# Altium footprint library 智能车专用库.PcbLib: 47 footprints (part 3 of 3)
Each footprint in its own frame and in the unit in brackets; x right, y up, seen from the top. Pads: shape width x height; smd on the part's side, far side on the other; paste and mask are expansions set on the pad; w line width, h text height; cw(c..) or ccw(c..) is an arc to the next point about the centre after c.
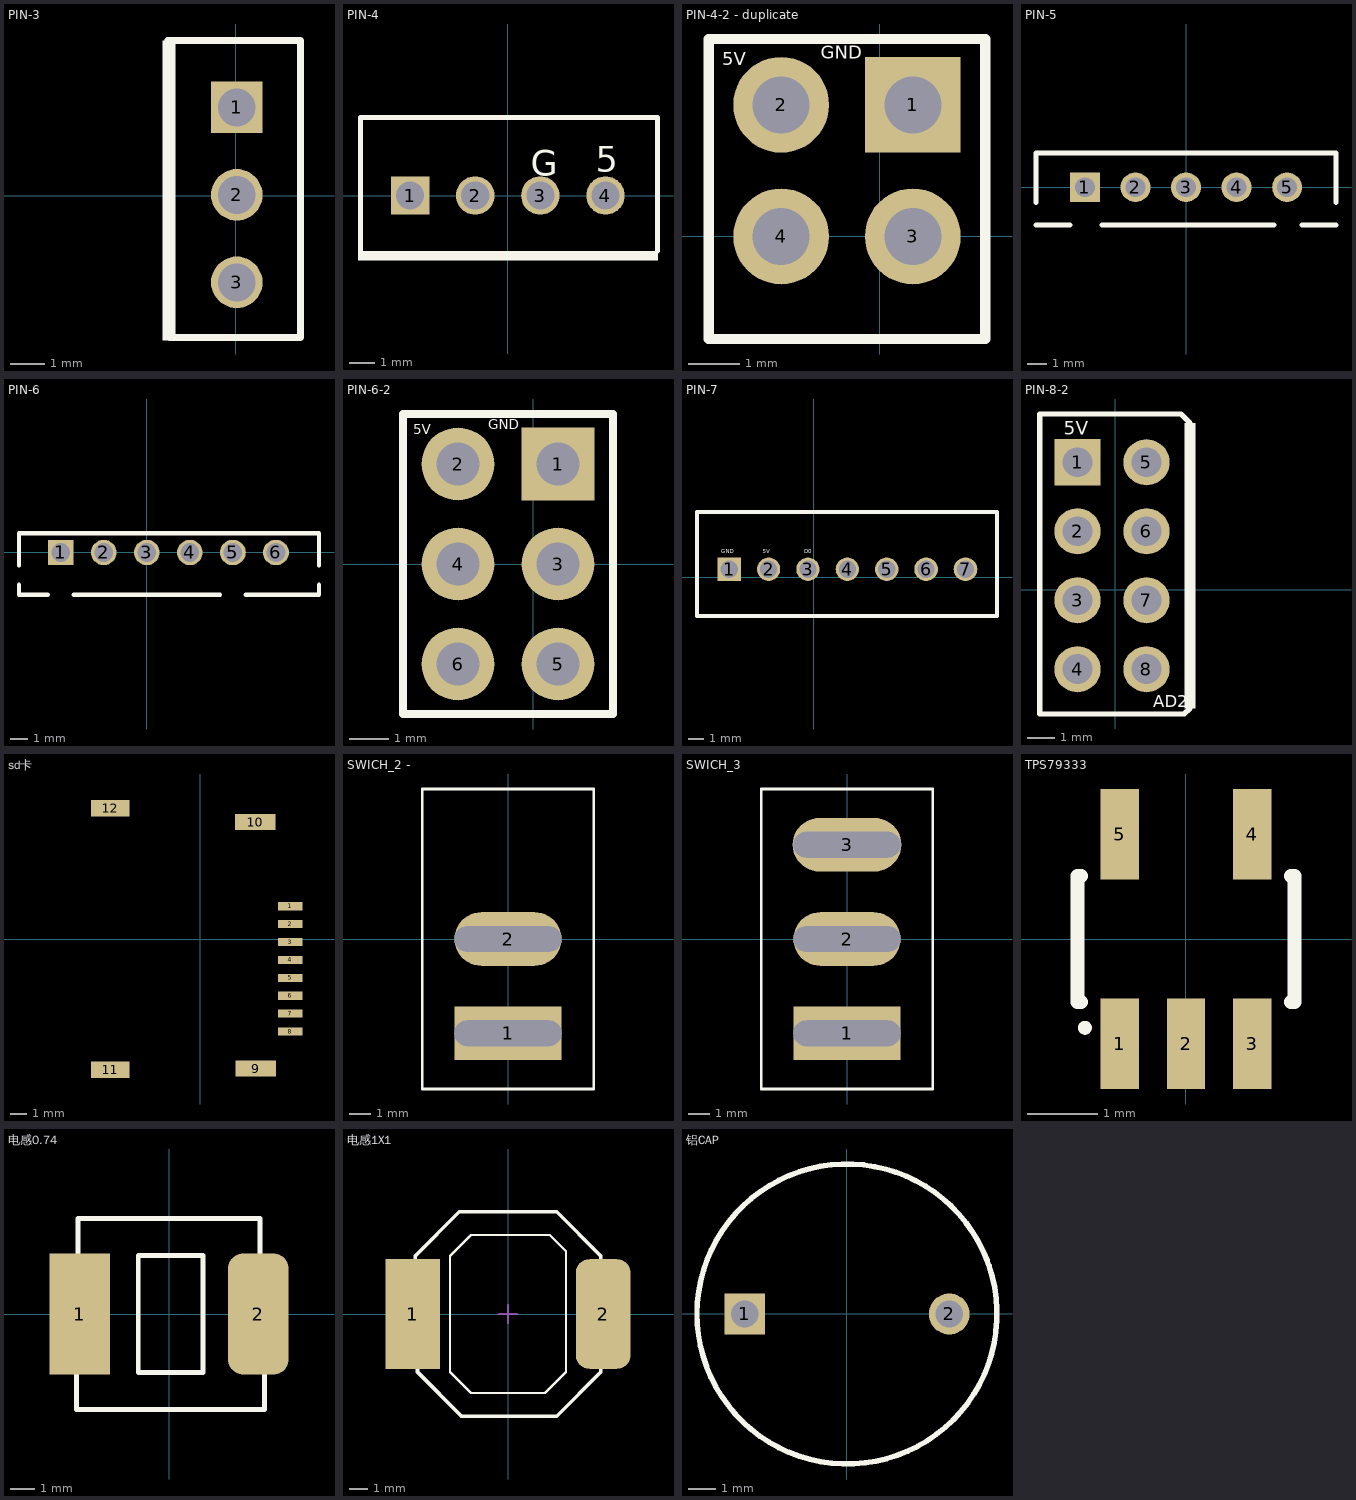
[diagram p2: the footprints below, top view; thin cyan lines are the x and y axes]

## PIN-3 [mm] "SIP; 4 Leads; Body 11.8 x 5.7mm (typ); Pitch 2.54 mm"
height 10.6
pads (3):
  rect 1.5x1.5 hole 1.1: 1(0.025,2.565)
  round 1.5 hole 1.1: 2(0.025,0.025) 3(0.025,-2.515)
Top Overlay:
  region: -2.134,4.505 -2.134,-4.207 -1.754,-4.207 -1.754,4.505
  lines w0.2: -1.981,4.505 1.88,4.505 1.88,-4.115 -1.93,-4.115

## PIN-4 [mm] "SIP; 4 Leads; Body 11.8 x 5.7mm (typ); Pitch 2.54 mm"
height 10.6
pads (4):
  rect 1.5x1.5 hole 1.1: 1(-3.81,0)
  round 1.5 hole 1.1: 2(-1.27,0) 3(1.27,0) 4(3.81,0)
Top Overlay:
  rectangle: -5.842,-2.54 5.858,-2.16
  lines w0.2: -5.75,-2.159 -5.75,3.048 5.75,3.048 ; 5.842,-2.159 5.842,3.048
  text "G" at 0.889,0.762 h0.99
  text "5" at 3.429,0.925 h0.99

## PIN-4-2 - duplicate [mm] "Double-Pole, Double-Throw Switch; 6 Leads"
pads (4):
  rect 1.85x1.85 hole 1.1: 1(0.635,2.54)
  round 1.85 hole 1.1: 2(-1.905,2.54) 3(0.635,0) 4(-1.905,0)
Top Overlay:
  lines w0.2: -3.302,-1.981 -3.302,3.81 2.032,3.81 2.032,-1.981 -3.302,-1.981
  text "GND" at -1.143,3.429 h0.25
  text "5V" at -3.048,3.302 h0.25

## PIN-5 [mm] "2.54mmX5"
pads (5):
  rect 1.5x1.5 hole 1: 1(-5.08,0)
  round 1.5 hole 1: 2(-2.54,0) 3(0,0) 4(2.54,0) 5(5.08,0)
Top Overlay:
  lines w0.254: -7.54,-1.905 -5.842,-1.905 ; -7.54,-0.762 -7.54,1.727 7.54,1.727 7.54,-0.762 ; -4.216,-1.905 4.42,-1.905 ; 5.842,-1.905 7.54,-1.905

## PIN-6 [mm] "2.54mmX5"
pads (6):
  rect 1.5x1.5 hole 1.1: 1(-5.08,0)
  round 1.5 hole 1.1: 2(-2.54,0) 3(0,0) 4(2.54,0)
  oval 1.524x1.5 hole 1.1: 5(5.08,0) 6(7.62,0)
Top Overlay:
  lines w0.254: -7.54,-1.905 -7.54,-2.5 -5.842,-2.5 ; -7.54,-0.762 -7.54,1.143 10.16,1.143 10.16,-0.762 ; -4.318,-2.5 4.318,-2.5 ; 5.842,-2.5 10.16,-2.5 10.16,-1.905

## PIN-6-2 [mm] "Double-Pole, Double-Throw Switch; 6 Leads"
pads (6):
  rect 1.85x1.85 hole 1.1: 1(0.635,2.54)
  round 1.85 hole 1.1: 2(-1.905,2.54) 3(0.635,0) 4(-1.905,0) 5(0.635,-2.54) 6(-1.905,-2.54)
Top Overlay:
  lines w0.2: -3.302,-3.81 2.032,-3.81 2.032,3.81 -3.302,3.81 -3.302,-3.81
  text "5V" at -3.048,3.302 h0.25
  text "GND" at -1.143,3.429 h0.25

## PIN-7 [mm] "2.54mmX5"
pads (7):
  rect 1.5x1.5 hole 1.1: 1(-5.461,0.508)
  round 1.5 hole 1.1: 2(-2.921,0.508) 3(-0.381,0.508) 4(2.159,0.508)
  oval 1.524x1.5 hole 1.1: 5(4.699,0.508) 6(7.239,0.508) 7(9.779,0.508)
Top Overlay:
  lines w0.254: 5.842,-2.5 11.811,-2.5 ; 6.223,-2.5 -4.318,-2.5 -7.54,-2.5 -7.54,-0.762 -7.54,4.191 11.811,4.191 11.811,-2.413
  text "D0" at -0.635,1.524 h0.25
  text "5V" at -3.302,1.524 h0.25
  text "GND" at -5.969,1.524 h0.25

## PIN-8-2 [mm] "TO, Thru-Hole, Vertical, Heatsink Mounted; 4 In-Line Leads; Pitch 2.54 mm"
height 20.6
pads (8):
  rect 1.7x1.7 hole 1.1: 1(-1.397,4.699)
  round 1.7 hole 1.1: 2(-1.397,2.159) 3(-1.397,-0.381) 4(-1.397,-2.921) 5(1.143,4.699) 6(1.143,2.159) 7(1.143,-0.381) 8(1.143,-2.921)
Top Overlay:
  region: 2.54,6.139 2.54,-4.361 2.94,-4.361 2.94,6.139
  lines w0.2: 2.743,-4.361 2.532,-4.572 -2.794,-4.572 -2.794,-1.355 -2.794,3.895 -2.794,6.477 2.405,6.477 2.743,6.139
  text "5V" at -1.905,5.715 h0.5
  text "AD2" at 1.397,-4.318 h0.45

## sd卡 [mm]
pads (12):
  rect 1.5x0.5 smd: 1(5.525,2.012) 2(5.525,0.912) 3(5.525,-0.188) 4(5.525,-1.288) 5(5.525,-2.388) 6(5.525,-3.488) 7(5.525,-4.588) 8(5.525,-5.687)
  rect 2.5x1 smd: 9(3.4,-7.962) 10(3.375,7.188)
  rect 2.36x1 smd: 11(-5.525,-8.037) 12(-5.525,8.038)
Bottom Overlay:
  lines w0.127: -10.125,-7.385 4.713,-7.385 4.713,7.413 -10.125,7.413 -10.125,-7.385

## SWICH_2 - [mm]
pads (2):
  rect 5x2.5 hole 1.2 slot 5 at 0 deg: 1(0,-4.4)
  oval 5x2.5 hole 1.2 slot 5 at 0 deg: 2(0,0)
Top Overlay:
  lines w0.127: -4,-7 -4,7 4,7 4,-7 -4,-7

## SWICH_3 [mm]
pads (3):
  rect 5x2.5 hole 1.2 slot 5 at 0 deg: 1(0,-4.4)
  oval 5x2.5 hole 1.2 slot 5 at 0 deg: 2(0,0)
  oval 5.08x2.5 hole 1.2 slot 5 at 0 deg: 3(0,4.4)
Top Overlay:
  lines w0.127: -4,-7 -4,7 4,7 4,-7 -4,-7

## TPS79333 [mm]
pads (5):
  rect 0.55x1.292 smd: 1(-0.95,-1.5) 2(0,-1.5) 3(0.95,-1.5) 4(0.95,1.5) 5(-0.95,1.5)
Top Overlay:
  circle w0.1: c-1.447,-1.27 r0.05
  lines w0.2: -1.5,-0.9 -1.55,-0.9 -1.55,0.9 -1.5,0.9 ; 1.5,-0.9 1.55,-0.9 1.55,0.9 1.5,0.9

## 电感0.74 [mm]
pads (2):
  rect 2.5x5 smd: 1(-3.683,0)
  rrect50% 2.5x5 smd: 2(3.683,0)
Top Overlay:
  lines w0.2: -3.81,-2.413 -3.81,-3.937 3.937,-3.937 3.937,-2.413 ; -3.746,2.413 -3.746,3.937 3.746,3.937 3.746,2.413 ; -1.27,-2.413 1.397,-2.413 1.397,2.413 -1.27,2.413 -1.27,-2.413

## 电感1X1 [mm]
pads (2):
  rect 3x6 smd: 1(-5.207,0)
  rrect50% 3x6 smd: 2(5.207,0)
Top Overlay:
  lines w0.127: -1.365,-4.318 2.032,-4.318 3.175,-3.175 3.175,0.127 3.175,2.667 3.175,3.429 2.286,4.318 -2.032,4.318 -3.175,3.175 -3.175,2.222 -3.175,-0.953 -3.175,-3.175 -2.032,-4.318 -0.984,-4.318
  lines w0.2: -5.08,2.794 -5.08,3.175 -2.667,5.588 2.667,5.588 5.08,3.175 5.08,2.921 ; -4.953,-2.921 -4.953,-3.175 -2.54,-5.588 2.667,-5.588 5.08,-3.175 5.08,-2.667
Mechanical 15:
  lines w0.1: -0.5,0 0.5,0 ; 0,-0.5 0,0.5

## 铝CAP [mm] "Capacitor; 2 Leads"
height 12
pads (2):
  rect 1.5x1.5 hole 1: 1(-3.75,0)
  round 1.5 hole 1: 2(3.75,0)
Top Overlay:
  lines w0.2: 5.065,2.143 cw(c0,0) -4.808,-2.671 cw(c0,0) 5.143,1.951